# Altium footprint library C0603_0.90MM_HD.PcbLib: 1 footprints
Each footprint in its own frame and in the unit in brackets; x right, y up, seen from the top. Pads: shape width x height; smd on the part's side, far side on the other; paste and mask are expansions set on the pad; w line width, h text height; cw(c..) or ccw(c..) is an arc to the next point about the centre after c.
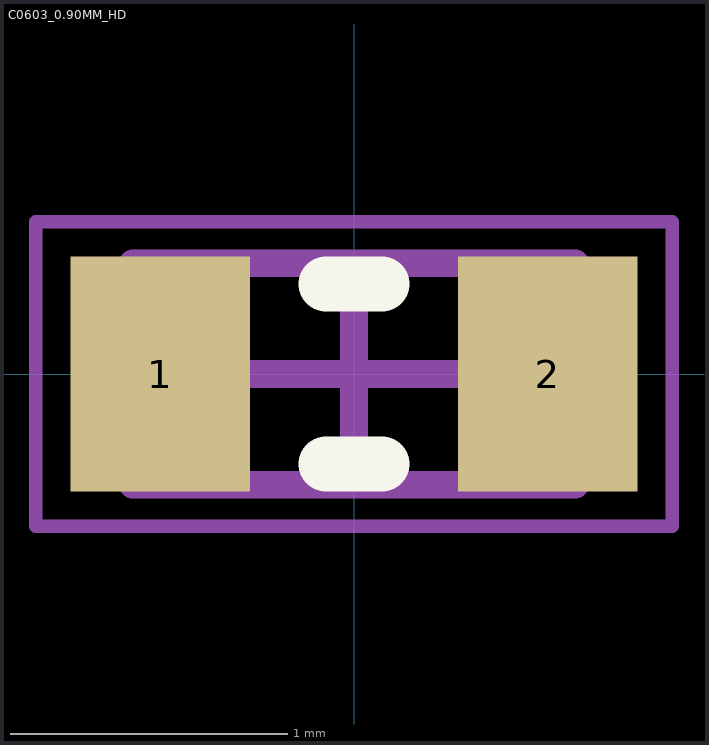
[diagram p0: the footprint, top view; thin cyan lines are the x and y axes]

## C0603_0.90MM_HD [mm] "Chip Capacitor, 2-Leads, Body 1.60x0.80mm, IPC High Density"
height 0.9
pads (2):
  rect 0.65x0.85 smd: 1(-0.7,0) 2(0.7,0)
Top Overlay:
  lines w0.2: -0.1,-0.325 0.1,-0.325 ; -0.1,0.325 0.1,0.325
Mechanical 13:
  lines w0.1: -0.8,-0.4 -0.8,0.4 0.8,0.4 0.8,-0.4 -0.8,-0.4
Mechanical 15:
  lines w0.05: -1.15,-0.55 -1.15,0.55 1.15,0.55 1.15,-0.55 -1.15,-0.55
  lines w0.1: -0.4,0 0.4,0 ; 0,-0.4 0,0.4
3D body "CAPC1608X09L.step": height 0.9, standoff 0, extent -0.8,-0.4 0.8,0.4